# Altium footprint library arduino_mini.PcbLib: 1 footprints
Each footprint in its own frame and in the unit in brackets; x right, y up, seen from the top. Pads: shape width x height; smd on the part's side, far side on the other; paste and mask are expansions set on the pad; w line width, h text height; cw(c..) or ccw(c..) is an arc to the next point about the centre after c.
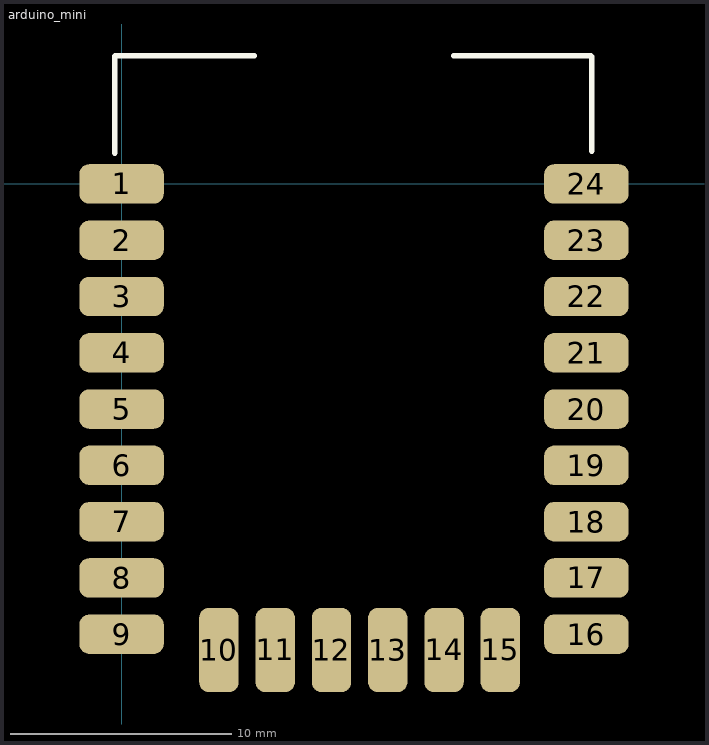
[diagram p0: the footprint, top view; thin cyan lines are the x and y axes]

## arduino_mini [mil]
height 181.1
pads (24):
  rrect50% 150x70 smd: 1(0,0) 2(0,-100) 3(0,-200) 4(0,-300) 5(0,-400) 6(0,-500) 7(0,-600) 8(0,-700) 9(0,-800) 16(826,-800) 17(826,-700) 18(826,-600) 19(826,-500) 20(826,-400) 21(826,-300) 22(826,-200) 23(826,-100) 24(826,0)
  rrect50% 70x150 smd: 10(173,-828) 11(273,-828) 12(373,-828) 13(473,-828) 14(573,-828) 15(673,-828)
Top Overlay:
  lines w10: -12,55 -12,185 -12,227 ; -11.4,227.6 235.84,227.6 ; 590.16,227.6 833.6,227.6 ; 835.48,58.48 835.48,185 835.48,225.72
3D body "arduino_mini.step": height 289.6, standoff -163.16, extent -14.22,-847.7 840.78,227.42